# Altium schematic symbol library SKY65723-11.SchLib: 1 symbol
Pins are listed as number, name and electrical type; pins without a type are passive.

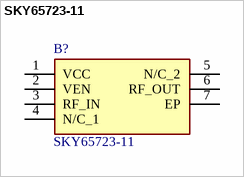
[diagram p0: symbol SKY65723-11]

## SKY65723-11
designator B?
RF Front End GPS GNSS LNA Module B13 Notch; Manufacturer_Name: Skyworks; Geometry.Height: 0.8mm; Manufacturer_Part_Number: SKY65723-11; Mouser Part Number: 873-SKY65723-11; Mouser Price/Stock: https://www.mouser.co.uk/ProductDetail/Skyworks-Solutions-Inc/SKY65723-11?qs=amGC7iS6iy%2FBJl3G6X1IOw%3D%3D; Arrow Part Number: *; Arrow Price/Stock: *; Datasheet Link: https://www.skyworksinc.com/-/media/SkyWorks/Documents/Products/2801-2900/SKY65723_11_203921F.pdf
footprint SKY6572311
pins: 1 VCC, 2 VEN, 3 RF_IN, 4 N/C_1, 5 N/C_2, 6 RF_OUT, 7 EP